# EAGLE library part MT8816 (library MT8816)
8x16 Analog Switch Array
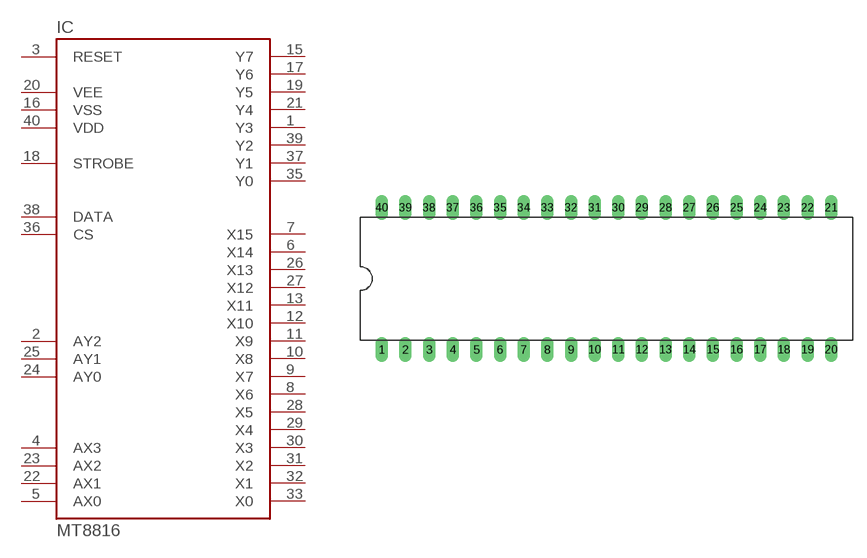
[diagram p0: symbol with the pads of DIL40; footprint DIL40]

Designator prefix IC

## MT8816AE1  [DIL40]
1  Y3
2  AY2  in
3  RESET  in
4  AX3  in
5  AX0  in
6  X14
7  X15
8  X6
9  X7
10  X8
11  X9
12  X10
13  X11
15  Y7
16  VSS  pwr
17  Y6
18  STROBE  in
19  Y5
20  VEE  pwr
21  Y4
22  AX1  in
23  AX2  in
24  AY0  in
25  AY1  in
26  X13
27  X12
28  X5
29  X4
30  X3
31  X2
32  X1
33  X0
35  Y0
36  CS  in
37  Y1
38  DATA  in
39  Y2
40  VDD  pwr

## Footprint DIL40 (pad centres in mm)
Dual In Line
drill 0.813 long: 1 -24.13,-7.62; 2 -21.59,-7.62; 3 -19.05,-7.62; 4 -16.51,-7.62; 5 -13.97,-7.62; 6 -11.43,-7.62; 7 -8.89,-7.62; 8 -6.35,-7.62; 9 -3.81,-7.62; 10 -1.27,-7.62; 11 1.27,-7.62; 12 3.81,-7.62; 13 6.35,-7.62; 14 8.89,-7.62; 15 11.43,-7.62; 16 13.97,-7.62; 17 16.51,-7.62; 18 19.05,-7.62; 19 21.59,-7.62; 20 24.13,-7.62; 21 24.13,7.62; 22 21.59,7.62; 23 19.05,7.62; 24 16.51,7.62; 25 13.97,7.62; 26 11.43,7.62; 27 8.89,7.62; 28 6.35,7.62; 29 3.81,7.62; 30 1.27,7.62; 31 -1.27,7.62; 32 -3.81,7.62; 33 -6.35,7.62; 34 -8.89,7.62; 35 -11.43,7.62; 36 -13.97,7.62; 37 -16.51,7.62; 38 -19.05,7.62; 39 -21.59,7.62; 40 -24.13,7.62